# Altium schematic symbol library Schlib1.SchLib: 10 symbols
Pins are listed as number, name and electrical type; pins without a type are passive.

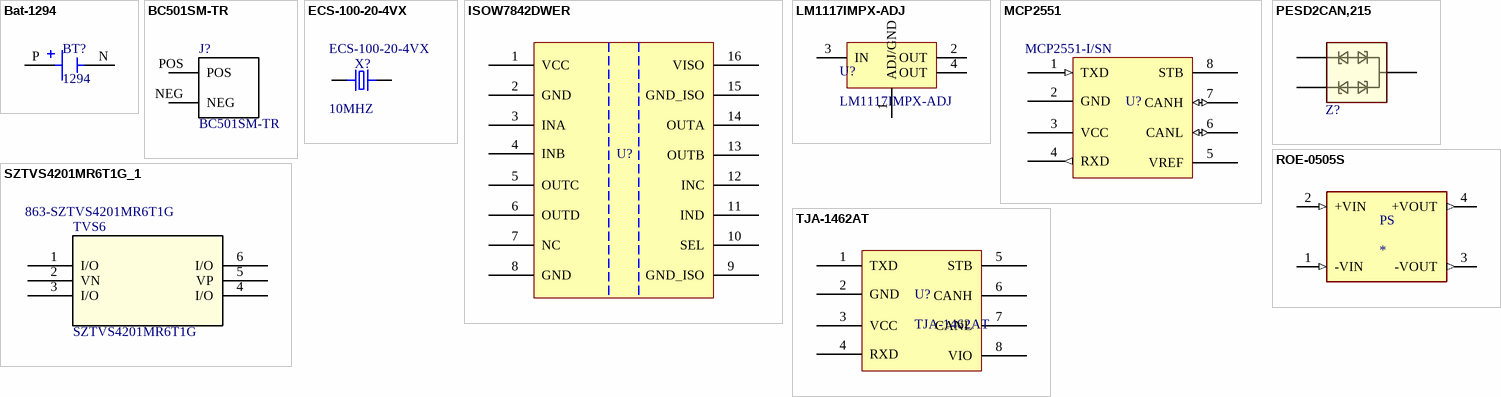
[diagram p0: symbols Bat-1294 to TJA-1462AT]

## Bat-1294
designator BT?, comment 1294
9V battery holder; Package: None; MP: 1294; Value: *; Availability: Unavailable; Price: None
footprint BAT_1294
pins: N NEG, P POS

## BC501SM-TR
designator J?
Holder Coin Cell For Cr1220 Smd; MF: MPD _Memory; Digi-Key_Purchase_URL: https://www.digikey.com/product-detail/en/mpd-memory-protection-devices/BC501SM-TR/BC501SM-TRCT-ND/5418194?utm_source=snapeda&utm_medium=aggregator&utm_campaign=symbol; SnapEDA_Link: https://www.snapeda.com/parts/BC501SM-TR/MPD%20%28Memory%20Protection%20Devices%29/view-part/479427/?ref=snap; MP: BC501SM-TR; Digi-Key_Part_Number: BC501SM-TRCT-ND; Package: DFN-8 MPD; Value: *
footprint *MPD_BC501SM-TR_BC501SM-TR(Primary) - duplicate
pins: NEG, POS

## ECS-100-20-4VX
designator X?  Frequency: 10MHZ  (hidden comment: ECS-100-20-4VX)
ECS-100-20-4VX 10MHz; Manufacturer: ESC INC; Frequency Stability: ±50ppm; Lifcycle Status: Active; Load Capacitance: 20 pF; Operating Mode: Fumdamental; ESR (Equivalent Series Resistance): 80 Ohms; Drive Level: 500 uW; Aging (First Year) @ 25°C: ±5 ppm; Frequency Tolerance: ±50ppm; Mounting Type: Through Hole; Supplier 1: Arrow Electronics; Operating Temperature: -10°C ~ 70°C; Packaging: HC-49UCCX; Datasheet: https://ecsxtal.com/store/pdf/HC-49USS.pdf; Supplier Part Number 1: ECS-100-20-4VX
footprint XTAL_ECS-100-20-4VX
pins: 1, 2

## ISOW7842DWER
designator U?  (value not drawn)
ISOW7842DWER 4Ch (2-2) General Purpose Digital Isolator; Manufacturer: Texas Insturments; Channel Type: Unidirectional; Inputs - Side1/Side2: 2/2; Isolated Power: No; Pulse Width Distortion (Max): 5.9ns; Tecnology: CMOS Logic Switching; Voltage Isolation: 5000 Vrms; Voltage Supply: 2.5V ~ 5V; Common Mode Transient Immunity: 100kV/us; Operating Temperature: -40°C ~ 125°C; Supplier 1: Mouser; Supplier Part Number 1: 595-ISOW7842DWER
footprint DW16
pins: 1 VCC, 2 GND, 3 INA, 4 INB, 5 OUTC, 6 OUTD, 7 NC, 8 GND, 9 GND_ISO, 10 SEL, 11 IND, 12 INC, 13 OUTB, 14 OUTA, 15 GND_ISO, 16 VISO

## LM1117IMPX-ADJ
designator U?
LDO Regulator Pos 3.3V 0.8A 4-Pin(3+Tab) SOT-223 T/R; Manufacturer: Texas Instruments; Manufacturer Part Number: LM1117IMPX-3.3; Output Current: 800mA; Dropout Voltage: 1.2V; Quiescent Current: 15mA; Number of Outputs: 1; Max Input Voltage: 15V; Polarity: Positive; Accuracy: 1%; Output Type: Fixed; RoHS: No; Category: Voltage Regulators - Linear; Mount: Surface Mount; Case/Package: SOT-223; Number of Pins: 4; Min Operating Temperature: -40°C; Max Operating Temperature: 125°C; Output Voltage: 3.3V; Packaging: Tape and Reel; Max Output Current: 800mA; Output Voltage Accuracy: 1%; Package Quantity: 2000; Number of Regulators: 1; Min Current Limit: 800mA; Lead Free: Contains Lead; ComponentLink1URL: https://datasheet.ciiva.com/6588/lm1117-n-6588632.pdf?src-supplier=Digi-Key; ComponentLink1Description: https://datasheet.ciiva.com/6588/lm1117-n-6588632.pdf?src-supplier=Digi-Key; ComponentLink2URL: https://datasheet.ciiva.com/6588/lm1117-n-6588636.pdf?src-supplier=Digi-Key; ComponentLink2Description: https://datasheet.ciiva.com/6588/lm1117-n-6588636.pdf?src-supplier=Digi-Key; ComponentLink3URL: https://datasheet.ciiva.com/6588/lm1117-n-6588639.pdf?src-supplier=Digi-Key; ComponentLink3Description: https://datasheet.ciiva.com/6588/lm1117-n-6588639.pdf?src-supplier=Digi-Key; Supplier 1: Mouser; Supplier Part Number 1: 926-M1117IMPXADJNOPB
footprint SOT-223-4 M
pins: 1 ADJ/GND (power), 2 OUT (power), 3 IN (power), 4 OUT

## MCP2551
designator U?  Supplier Part Number 1: MCP2551-I/SN  (hidden comment: MCP2551)
MCP2551 CAN Transreciever 8Mbit/sn; Virtual Junction Temperature (Tvj): -40°C ~ 150°C; VCANH-VCANL: -40V ~ 40V; Transreciever Hysteresis: 50mV; Differential Reciever Hysteresis: 100mV; Datasheet: https://www.nxp.com/docs/en/data-sheet/TJA1462.pdf; Operating Temperature: -40°C ~ 125°C; Supplier 1: Arrow Electronics
footprint MCP2551T-I/SN
pins: 1 TXD (in), 2 GND, 3 VCC, 4 RXD (out), 5 VREF, 6 CANL (io), 7 CANH (io), 8 STB

## PESD2CAN,215
designator Z?  (value not drawn)
Zener Diode; Manufacturer_Name: Nexperia; Datasheet Link: http://de.rs-online.com/webdocs/0b4d/0900766b80b4dbb6.pdf; Height: 1.1mm; Manufacturer_Part_Number: PESD2CAN,215; Mouser Part Number: 771-PESD2CAN-T/R; Mouser Price/Stock: https://www.mouser.com/Search/Refine.aspx?Keyword=771-PESD2CAN-T%2FR; RS Part Number: 0508462; RS Price/Stock: http://uk.rs-online.com/web/p/products/0508462
footprint SOT95P230X110-3N
pins: 1, 2, 3

## ROE-0505S
designator PS
1W DC/DC-Converter 'ECONOLINE' SIP4 1kV unreg; MP: ROE-0505S; MF: Recom Power; Package: SIP-4 Recom Power; Value: *; Digi-Key_Part_Number: 945-1655-5-ND; SnapEDA_Link: https://www.snapeda.com/parts/ROE-0505S/Recom%20Power/view-part/186392/?ref=snap; Digi-Key_Purchase_URL: https://www.digikey.in/product-detail/en/recom-power/ROE-0505S/945-1655-5-ND/3461632?utm_source=snapeda&utm_medium=aggregator&utm_campaign=symbol
footprint CONV_ROE-0505S
pins: 1 -VIN (in), 2 +VIN (in), 3 -VOUT (out), 4 +VOUT (out)

## SZTVS4201MR6T1G_1
designator TVS6, comment SZTVS4201MR6T1G  Supplier Part Number 1: 863-SZTVS4201MR6T1G
Mfr_Name: onsemi; Copyright: Copyright (C) 2021 Ultra Librarian. All rights reserved.; Manufacturer_Part_Number: SZTVS4201MR6T1G; RefDes: RefDes; Type: DEV; Supplier 1: Mouser
footprint SOP95P275X110-6N
pins: 1 I/O, 2 VN, 3 I/O, 4 I/O, 5 VP, 6 I/O

## TJA-1462AT
designator U?
TJA-1462AT CAN Transreciever 8Mbit/sn; Virtual Junction Temperature (Tvj): -40°C ~ 150°C; VCANH-VCANL: -40V ~ 40V; Transreciever Hysteresis: 50mV; Differential Reciever Hysteresis: 100mV; Supplier 1: Farnell; Supplier Part Number 1: 3677371; Datasheet: https://www.nxp.com/docs/en/data-sheet/TJA1462.pdf; Operating Temperature: -40°C ~ 125°C
footprint MCP2551T-I/SN
pins: 1 TXD, 2 GND, 3 VCC, 4 RXD, 5 STB, 6 CANH, 7 CANL, 8 VIO